# EAGLE library part RHP1001-PLCC (library harrison)
Intan Technologies RHP1001 patch clamp chip (PLCC-44 package)
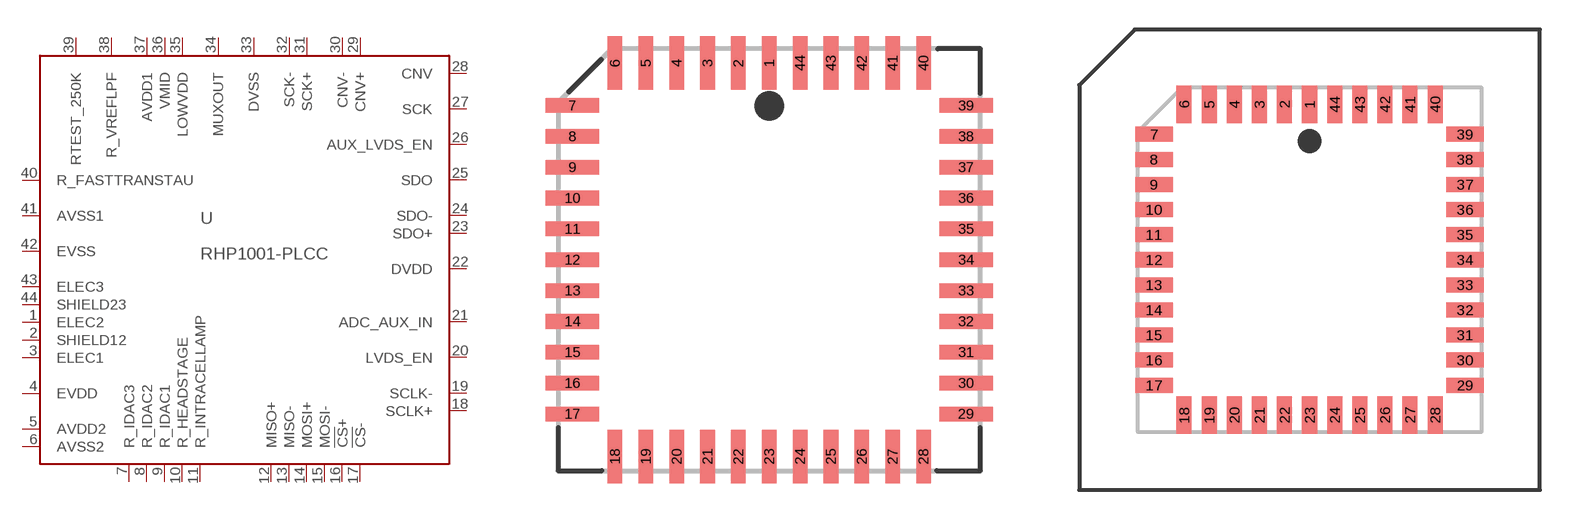
[diagram p85: symbol with the pads of PLCC44; footprints PLCC44, PLCC44-SOCKET]

Designator prefix U

## RHP1001-PLCC  [PLCC44]
1  ELEC2  in
2  SHIELD12  pas
3  ELEC1  in
4  EVDD  pwr
5  AVDD2  pwr
6  AVSS2  pwr
7  R_IDAC3  pas
8  R_IDAC2  pas
9  R_IDAC1  pas
10  R_HEADSTAGE  pas
11  R_INTRACELLAMP  pas
12  MISO+  out
13  MISO-  out
14  MOSI+  in
15  MOSI-  in
16  !CS!+  in
17  !CS!-  in
18  SCLK+  in
19  SCLK-  in
20  LVDS_EN  in
21  ADC_AUX_IN  in
22  DVDD  pwr
23  SDO+  out
24  SDO-  out
25  SDO  in
26  AUX_LVDS_EN  in
27  SCK  out
28  CNV  out
29  CNV+  in
30  CNV-  in
31  SCK+  in
32  SCK-  in
33  DVSS  pwr
34  MUXOUT  out
35  LOWVDD  pwr
36  VMID  pwr
37  AVDD1  pwr
38  R_VREFLPF  pas
39  RTEST_250K  pas
40  R_FASTTRANSTAU  pas
41  AVSS1  pwr
42  EVSS  pwr
43  ELEC3  in
44  SHIELD23  pas

## RHP1001-PLCC-SOCKET  [PLCC44-SOCKET]
Pads as for PLCC44

## Footprint PLCC44 (pad centres in mm)
smd 0.6 x 2.2: 1 0,8.1; 2 -1.27,8.1; 3 -2.54,8.1; 4 -3.81,8.1; 5 -5.08,8.1; 6 -6.35,8.1; 18 -6.35,-8.1; 19 -5.08,-8.1; 20 -3.81,-8.1; 21 -2.54,-8.1; 22 -1.27,-8.1; 23 0,-8.1; 24 1.27,-8.1; 25 2.54,-8.1; 26 3.81,-8.1; 27 5.08,-8.1; 28 6.35,-8.1; 40 6.35,8.1; 41 5.08,8.1; 42 3.81,8.1; 43 2.54,8.1; 44 1.27,8.1
smd 2.2 x 0.6: 7 -8.1,6.35; 8 -8.1,5.08; 9 -8.1,3.81; 10 -8.1,2.54; 11 -8.1,1.27; 12 -8.1,0; 13 -8.1,-1.27; 14 -8.1,-2.54; 15 -8.1,-3.81; 16 -8.1,-5.08; 17 -8.1,-6.35; 29 8.1,-6.35; 30 8.1,-5.08; 31 8.1,-3.81; 32 8.1,-2.54; 33 8.1,-1.27; 34 8.1,0; 35 8.1,1.27; 36 8.1,2.54; 37 8.1,3.81; 38 8.1,5.08; 39 8.1,6.35

## Footprint PLCC44-SOCKET (pad centres in mm)
PLCC SMD socket - DigiKey P/N AE10071-ND
smd 0.76 x 1.91: 1 0,7.87; 2 -1.27,7.87; 3 -2.54,7.87; 4 -3.81,7.87; 5 -5.08,7.87; 6 -6.35,7.87; 18 -6.35,-7.87; 19 -5.08,-7.87; 20 -3.81,-7.87; 21 -2.54,-7.87; 22 -1.27,-7.87; 23 0,-7.87; 24 1.27,-7.87; 25 2.54,-7.87; 26 3.81,-7.87; 27 5.08,-7.87; 28 6.35,-7.87; 40 6.35,7.87; 41 5.08,7.87; 42 3.81,7.87; 43 2.54,7.87; 44 1.27,7.87
smd 1.91 x 0.76: 7 -7.87,6.35; 8 -7.87,5.08; 9 -7.87,3.81; 10 -7.87,2.54; 11 -7.87,1.27; 12 -7.87,0; 13 -7.87,-1.27; 14 -7.87,-2.54; 15 -7.87,-3.81; 16 -7.87,-5.08; 17 -7.87,-6.35; 29 7.87,-6.35; 30 7.87,-5.08; 31 7.87,-3.81; 32 7.87,-2.54; 33 7.87,-1.27; 34 7.87,0; 35 7.87,1.27; 36 7.87,2.54; 37 7.87,3.81; 38 7.87,5.08; 39 7.87,6.35